# Altium footprint library ISS_PCB.PcbLib: 46 footprints (part 2 of 3)
Each footprint in its own frame and in the unit in brackets; x right, y up, seen from the top. Pads: shape width x height; smd on the part's side, far side on the other; paste and mask are expansions set on the pad; w line width, h text height; cw(c..) or ccw(c..) is an arc to the next point about the centre after c.
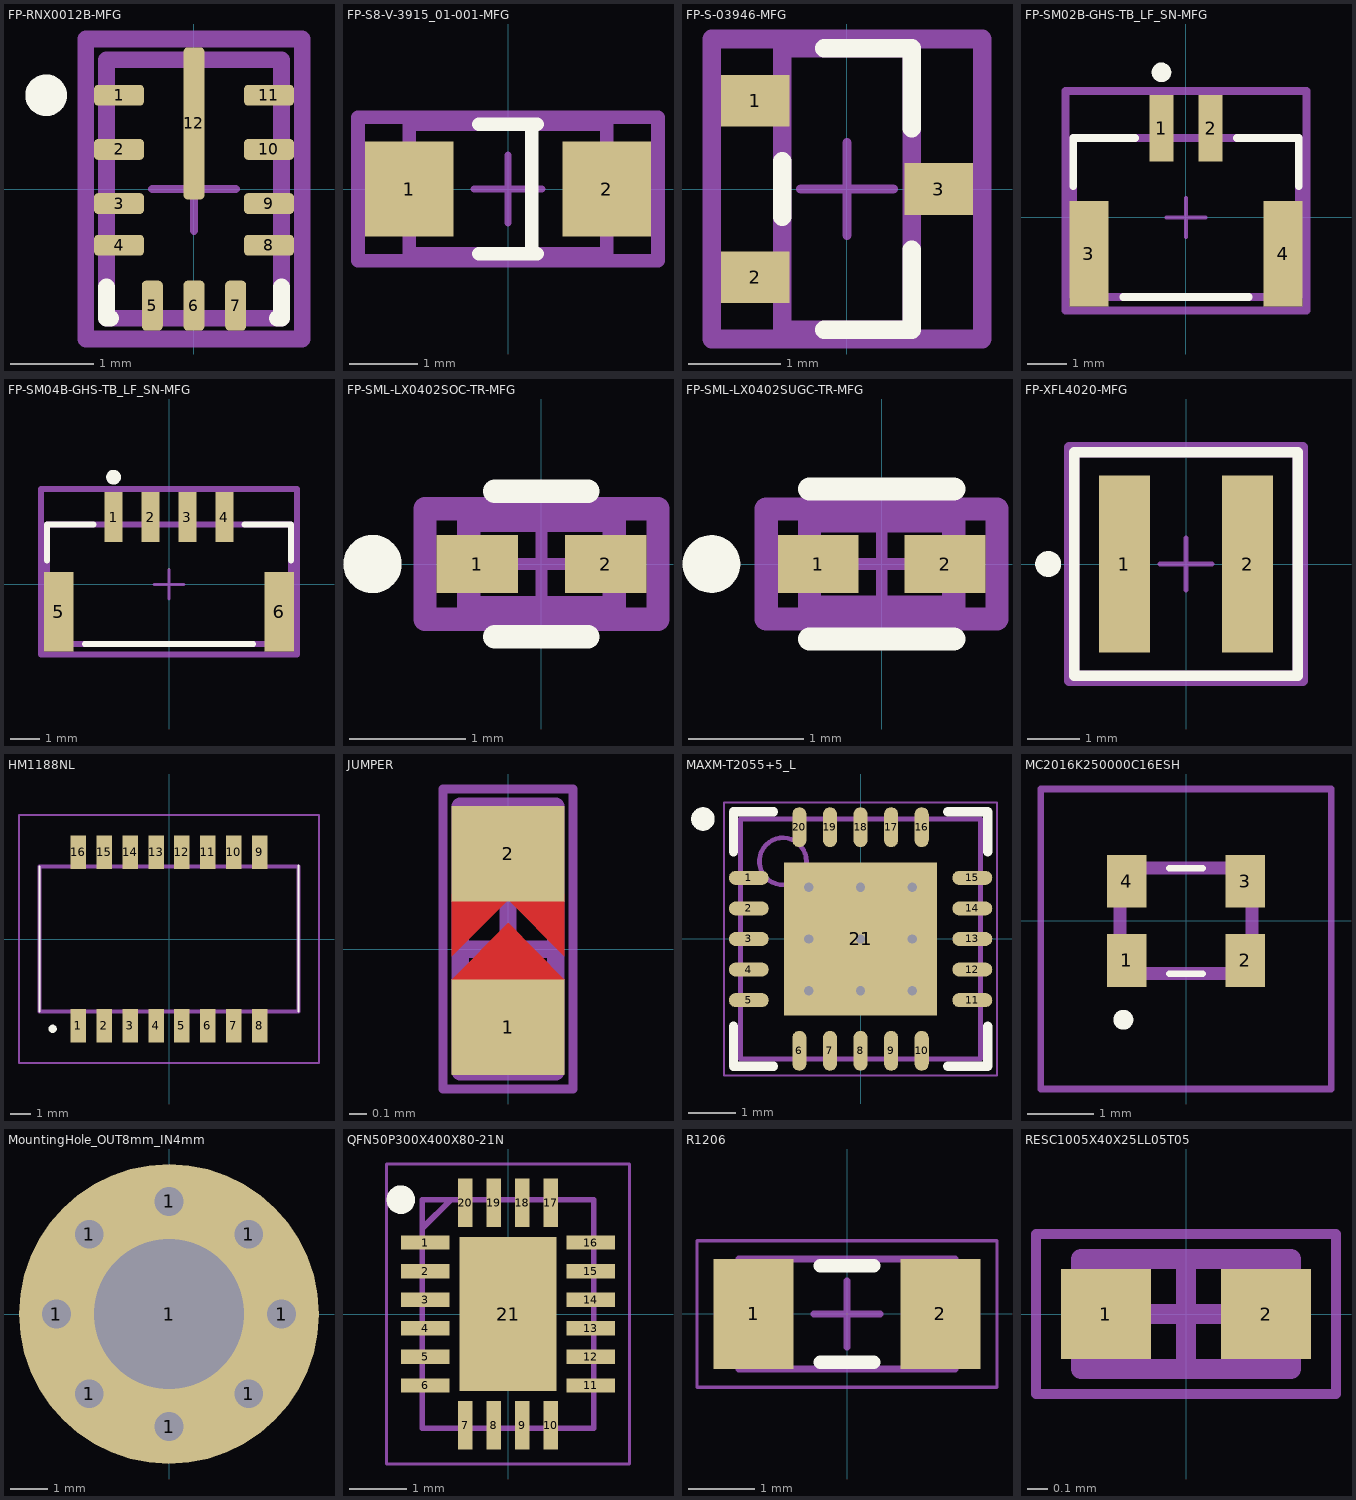
[diagram p1: the footprints below, top view; thin cyan lines are the x and y axes]

## FP-RNX0012B-MFG [mm]
pads (12):
  rrect40% 0.6x0.25 smd paste+0 mask+0: 1(-0.9,1.125) 2(-0.9,0.475) 3(-0.9,-0.175) 4(-0.9,-0.675) 8(0.9,-0.675) 9(0.9,-0.175) 10(0.9,0.475) 11(0.9,1.125)
  rrect40% 0.25x0.6 smd paste+0 mask+0: 5(-0.5,-1.4) 6(0,-1.4) 7(0.5,-1.4)
  rrect40% 0.25x1.825 smd paste-1000 mask+0: 12(0,0.788)
Top Overlay:
  circle w0.25: c-1.775,1.125 r0.125
  lines w0.2: -1.05,-1.175 -1.05,-1.55 -1,-1.55 ; 1,-1.55 1.05,-1.55 1.05,-1.175
Top Paste:
  region: 0.125,1.65 0.125,0.938 0.125,0.928 0.117,0.91 0.103,0.896 0.085,0.888 0.075,0.888 -0.075,0.888 -0.085,0.888 -0.103,0.896 -0.117,0.91 -0.125,0.928 -0.125,0.938 -0.125,1.65 -0.125,1.66 -0.117,1.678 -0.103,1.692 -0.085,1.7 -0.075,1.7 0.075,1.7 0.085,1.7 0.103,1.692 0.117,1.678 0.125,1.66
  region: 0.125,0.638 0.125,-0.074 0.125,-0.084 0.117,-0.102 0.103,-0.116 0.085,-0.124 0.075,-0.124 -0.075,-0.124 -0.085,-0.124 -0.103,-0.116 -0.117,-0.102 -0.125,-0.084 -0.125,-0.074 -0.125,0.638 -0.125,0.648 -0.117,0.666 -0.103,0.68 -0.085,0.688 -0.075,0.688 0.075,0.688 0.085,0.688 0.103,0.68 0.117,0.666 0.125,0.648
Top Courtyard:
  lines w0.2: -1.3,-1.8 1.3,-1.8 1.3,1.8 -1.3,1.8 -1.3,-1.8
Top Assembly:
  lines w0.2: -1.3,-1.8 1.3,-1.8 1.3,1.8 -1.3,1.8 -1.3,-1.8
  text ".Designator" at 0,0.188 h1
Top 3D Body:
  lines w0.2: -1.05,-1.55 1.05,-1.55 1.05,1.55 -1.05,1.55 -1.05,-1.55
Top Component Center:
  lines w0.1: -0.5,0 0.5,0 ; 0,-0.5 0,0.5
3D body "IC_Texas_Instruments_LMR33620CQ3RNXTQ1_eec.STEP": height 0.25, standoff 0, extent -1.3,-1.8 1.3,1.8

## FP-S8-V-3915_01-001-MFG [mm]
pads (2):
  rect 1.3x1.4 smd paste+0 mask+0: 1(-1.45,0) 2(1.45,0)
Top Overlay:
  lines w0.2: -0.425,-0.95 0.425,-0.95 ; -0.425,0.95 0.425,0.95 ; 0.35,-0.87 0.35,0.87
Top Courtyard:
  lines w0.2: -2.2,-1.05 2.2,-1.05 2.2,1.05 -2.2,1.05 -2.2,-1.05
Top Assembly:
  lines w0.2: -2.2,-1.05 2.2,-1.05 2.2,1.05 -2.2,1.05 -2.2,-1.05
  text ".Designator" at 0,-0.001 h1
Top 3D Body:
  lines w0.2: -1.45,-0.95 1.45,-0.95 1.45,0.95 -1.45,0.95 -1.45,-0.95
Top Component Center:
  lines w0.1: -0.5,0 0.5,0 ; 0,-0.5 0,0.5
3D body "Diode_Vishay_SS2FH6HM3-H_eec.STEP": height 0.25, standoff 0, extent -2.2,-1.05 2.2,1.05

## FP-S-03946-MFG [mil]
pads (3):
  rect 29x22 smd paste+0 mask+0: 1(-39,37.5) 2(-39,-37.5) 3(39,0)
Top Overlay:
  lines w7.87: -27.56,-11.74 -27.56,11.74 ; -9.74,-59.84 27.56,-59.84 27.56,-25.76 ; -9.74,59.84 27.56,59.84 27.56,25.76
Top Courtyard:
  lines w7.87: -57.44,-63.78 57.44,-63.78 57.44,63.78 -57.44,63.78 -57.44,-63.78
Top Assembly:
  lines w7.87: -57.44,-63.78 57.44,-63.78 57.44,63.78 -57.44,63.78 -57.44,-63.78
  text ".Designator" at 0,-0.02 h39.37
Top 3D Body:
  lines w7.87: -27.56,-59.84 27.56,-59.84 27.56,59.84 -27.56,59.84 -27.56,-59.84
Top Component Center:
  lines w3.94: -19.69,0 19.68,0 ; 0,-19.68 0,19.69
3D body "Trans_Vishay_SI2318DS-T1-E3_eec.STEP": height 10, standoff 0, extent -57.44,-63.78 57.44,63.78

## FP-SM02B-GHS-TB_LF_SN-MFG [mm]
pads (4):
  rect 0.6x1.7 smd paste+0 mask+0: 1(-0.625,2.275) 2(0.625,2.275)
  rect 1x2.7 smd paste+0 mask+0: 3(-2.475,-0.925) 4(2.475,-0.925)
Top Overlay:
  circle w0.25: c-0.625,3.7 r0.125
  lines w0.2: -2.875,0.8 -2.875,2.025 -1.3,2.025 ; -1.6,-2.025 1.6,-2.025 ; 1.3,2.025 2.875,2.025 2.875,0.8
Top Courtyard:
  lines w0.2: -3.075,-2.375 3.075,-2.375 3.075,3.225 -3.075,3.225 -3.075,-2.375
Top Assembly:
  lines w0.2: -3.075,-2.375 3.075,-2.375 3.075,3.225 -3.075,3.225 -3.075,-2.375
  text ".Designator" at 0,0.613 h1
Top 3D Body:
  lines w0.2: -2.875,-2.025 2.875,-2.025 2.875,2.025 -2.875,2.025 -2.875,-2.025
Top Component Center:
  lines w0.1: -0.5,0 0.5,0 ; 0,-0.5 0,0.5
3D body "Conn_JST_SM02B-GHS-TB_LF_SN_eec.STEP": height 0.25, standoff 0, extent -3.075,-2.375 3.075,3.225

## FP-SM04B-GHS-TB_LF_SN-MFG [mm]
pads (6):
  rect 0.6x1.7 smd paste+0 mask+0: 1(-1.875,2.275) 2(-0.625,2.275) 3(0.625,2.275) 4(1.875,2.275)
  rect 1x2.7 smd paste+0 mask+0: 5(-3.725,-0.925) 6(3.725,-0.925)
Top Overlay:
  circle w0.25: c-1.875,3.625 r0.125
  lines w0.2: -4.125,0.8 -4.125,2.025 -2.55,2.025 ; -2.85,-2.025 2.85,-2.025 ; 2.55,2.025 4.125,2.025 4.125,0.8
Top Courtyard:
  lines w0.2: -4.325,-2.375 4.325,-2.375 4.325,3.225 -4.325,3.225 -4.325,-2.375
Top Assembly:
  lines w0.2: -4.325,-2.375 4.325,-2.375 4.325,3.225 -4.325,3.225 -4.325,-2.375
  text ".Designator" at 0,0.613 h1
Top 3D Body:
  lines w0.2: -4.125,-2.025 4.125,-2.025 4.125,2.025 -4.125,2.025 -4.125,-2.025
Top Component Center:
  lines w0.1: -0.5,0 0.5,0 ; 0,-0.5 0,0.5
3D body "Conn_JST_SM04B-GHS-TB_LF_SN_eec.STEP": height 0.25, standoff 0, extent -4.325,-2.375 4.325,3.225

## FP-SML-LX0402SOC-TR-MFG [mm]
pads (2):
  rect 0.7x0.5 smd paste+0 mask+0: 1(-0.55,0) 2(0.55,0)
Top Overlay:
  circle w0.25: c-1.45,0 r0.125
  lines w0.2: -0.4,-0.625 0.4,-0.625 ; -0.4,0.625 0.4,0.625
Top Courtyard:
  lines w0.2: -1,-0.475 1,-0.475 1,0.475 -1,0.475 -1,-0.475
Top Assembly:
  lines w0.2: -1,-0.475 1,-0.475 1,0.475 -1,0.475 -1,-0.475
  text ".Designator" at 0,-0.001 h1
Top 3D Body:
  lines w0.2: -0.625,-0.375 0.625,-0.375 0.625,0.375 -0.625,0.375 -0.625,-0.375
Top Component Center:
  lines w0.1: -0.5,0 0.5,0 ; 0,-0.5 0,0.5
3D body "Diode_Lumex_SML-LX0402SOC-TR_eec.STEP": height 0.25, standoff 0, extent -1,-0.475 1,0.475

## FP-SML-LX0402SUGC-TR-MFG [mm]
pads (2):
  rect 0.7x0.5 smd paste+0 mask+0: 1(-0.55,0) 2(0.55,0)
Top Overlay:
  circle w0.25: c-1.475,0 r0.125
  lines w0.2: -0.625,-0.65 0.625,-0.65 ; -0.625,0.65 0.625,0.65
Top Courtyard:
  lines w0.2: -1,-0.475 1,-0.475 1,0.475 -1,0.475 -1,-0.475
Top Assembly:
  lines w0.2: -1,-0.475 1,-0.475 1,0.475 -1,0.475 -1,-0.475
  text ".Designator" at 0,-0.001 h1
Top 3D Body:
  lines w0.2: -0.625,-0.375 0.625,-0.375 0.625,0.375 -0.625,0.375 -0.625,-0.375
Top Component Center:
  lines w0.1: -0.5,0 0.5,0 ; 0,-0.5 0,0.5
3D body "Diode_Lumex_SML-LX0402SUGC-TR_eec.STEP": height 0.25, standoff 0, extent -1,-0.475 1,0.475

## FP-XFL4020-MFG [mm]
pads (2):
  rect 0.98x3.4 smd paste+0 mask+0: 1(-1.185,0) 2(1.185,0)
Top Overlay:
  circle w0.25: c-2.65,0 r0.125
  lines w0.2: -2.15,-2.15 -2.15,2.15 2.15,2.15 2.15,-2.15 -2.15,-2.15
Top Courtyard:
  lines w0.2: -2.25,-2.25 -2.25,2.25 2.25,2.25 2.25,-2.25 -2.25,-2.25
Top Assembly:
  lines w0.2: -2.25,-2.25 -2.25,2.25 2.25,2.25 2.25,-2.25 -2.25,-2.25
  text ".Designator" at 0,0.188 h1
Top 3D Body:
  lines w0.2: -2.15,-2.15 -2.15,2.15 2.15,2.15 2.15,-2.15 -2.15,-2.15
Top Component Center:
  lines w0.1: -0.5,0 0.5,0 ; 0,-0.5 0,0.5
3D body "Ind_Coilcraft_XFL4020-222MEC_eec.STEP": height 0.25, standoff 0, extent -2.25,-2.25 2.25,2.25

## HM1188NL [mil]
pads (16):
  rect 30x65 smd: 1(-175,-167.52) 2(-125,-167.52) 3(-75,-167.52) 4(-25,-167.52) 5(25,-167.52) 6(75,-167.52) 7(125,-167.52) 8(175,-167.52) 9(175,167.52) 10(125,167.52) 11(75,167.52) 12(25,167.52) 13(-25,167.52) 14(-75,167.52) 15(-125,167.52) 16(-175,167.52)
Top Overlay:
  lines w3.94: -250,-140 -250,140 ; 250,-140 250,141.73
  lines w7.87: -228.35,-173.23 cw(c-224.41,-173.23) -220.47,-173.23 cw(c-224.41,-173.23) -228.35,-173.23
Top 3D Body:
  lines w7.87: -250,-140 -250,140 250,140 250,-140 -250,-140
Mechanical 15:
  lines w3.94: -289.37,-239.37 -289.37,239.37 289.37,239.37 289.37,-239.37 -289.37,-239.37
3D body "HM1188NL.stp": height 238.94, standoff 0, extent -250,-197.02 250,197.02

## JUMPER [mm]
pads (2):
  rect 0.65x0.55 smd paste-2.54 mask-2.54: 1(0,-0.45) 2(0,0.55)
Top Layer:
  region: -0.325,-0.041 0,0.284 0.325,-0.041 0.325,0.318 -0.325,0.318
  region: -0.325,-0.175 0.003,0.152 0.325,-0.175
Top Solder:
  rectangle: -0.325,-0.728 0.325,0.822
Top 3D Body:
  lines w0.1: -0.275,-0.706 0.275,-0.706 0.275,0.823 -0.275,0.823 -0.275,-0.706
Mechanical 15:
  lines w0.05: -0.375,-0.806 0.375,-0.806 0.375,0.923 -0.375,0.923 -0.375,-0.806
  lines w0.1: -0.25,0 0.25,0 ; 0,-0.25 0,0.25

## MAXM-T2055+5_L [mm]
pads (21):
  oval 0.85x0.3 smd: 1(-2.375,1.3) 2(-2.375,0.65) 3(-2.375,0) 4(-2.375,-0.65) 5(-2.375,-1.3) 11(2.375,-1.3) 12(2.375,-0.65) 13(2.375,0) 14(2.375,0.65) 15(2.375,1.3)
  oval 0.3x0.85 smd: 6(-1.3,-2.375) 7(-0.65,-2.375) 8(0,-2.375) 9(0.65,-2.375) 10(1.3,-2.375) 16(1.3,2.375) 17(0.65,2.375) 18(0,2.375) 19(-0.65,2.375) 20(-1.3,2.375)
  rect 3.25x3.25 smd: 21(0,0)
via -1.1,1.1 diameter 0.5 hole 0.2
via 0,1.1 diameter 0.5 hole 0.2
via 1.1,1.1 diameter 0.5 hole 0.2
via -1.1,0 diameter 0.5 hole 0.2
via 0,0 diameter 0.5 hole 0.2
via 1.1,0 diameter 0.5 hole 0.2
via -1.1,-1.1 diameter 0.5 hole 0.2
via 0,-1.1 diameter 0.5 hole 0.2
via 1.1,-1.1 diameter 0.5 hole 0.2
Top Overlay:
  circle w0.25: c-3.35,2.55 r0.125
  lines w0.2: -2.7,-1.85 -2.7,-2.7 -1.85,-2.7 ; -2.7,1.85 -2.7,2.7 -1.85,2.7 ; 1.85,-2.7 2.7,-2.7 2.7,-1.85 ; 1.85,2.7 2.7,2.7 2.7,1.85
Top 3D Body:
  circle w0.1: c-1.65,1.65 r0.5
  lines w0.1: -2.55,-2.55 -2.55,2.55 2.55,2.55 2.55,-2.55 -2.55,-2.55
Mechanical 15:
  lines w0.05: -2.9,-2.9 -2.9,2.9 2.9,2.9 2.9,-2.9 -2.9,-2.9
  lines w0.1: -0.5,0 0.5,0 ; 0,-0.5 0,0.5
3D body: height 0.8, standoff 0, extent -2.55,-2.55 2.55,2.55

## MC2016K250000C16ESH [mm]
pads (4):
  rect 0.6x0.8 smd: 1(-0.9,-0.6) 2(0.9,-0.6) 3(0.9,0.6) 4(-0.9,0.6)
Top Overlay:
  lines w0.1: -0.25,-0.8 0.25,-0.8 -0.25,-0.8 ; -0.25,0.8 0.25,0.8 -0.25,0.8
  lines w0.2: -1,-1.5 ccw(c-0.95,-1.5) -0.9,-1.5 ; -1,-1.5 cw(c-0.95,-1.5) -0.9,-1.5 ; -1,-1.5 ccw(c-0.95,-1.5) -0.9,-1.5
Top 3D Body:
  lines w0.2: -1,-0.8 -1,0.8 1,0.8 1,-0.8 -1,-0.8
Mechanical 15:
  lines w0.1: -2.2,-2.55 -2.2,2 2.2,2 2.2,-2.55 -2.2,-2.55
3D body "MC2016K25.0000C16ESH.stp": height 0.9, standoff 0, extent -1.14,-0.94 1.14,0.94

## MountingHole_OUT8mm_IN4mm [mil]
pads (9):
  round 60 hole 30: 1(-118.11,0) 1(-83.52,-83.52) 1(-83.52,83.52) 1(0,-118.11) 1(0,118.11) 1(83.52,-83.52) 1(83.52,83.52) 1(118.11,0)
  round 314.96 hole 157.48: 1(0,0)

## QFN50P300X400X80-21N [mm]
pads (21):
  rect 0.85x0.25 smd: 1(-1.45,1.25) 2(-1.45,0.75) 3(-1.45,0.25) 4(-1.45,-0.25) 5(-1.45,-0.75) 6(-1.45,-1.25) 11(1.45,-1.25) 12(1.45,-0.75) 13(1.45,-0.25) 14(1.45,0.25) 15(1.45,0.75) 16(1.45,1.25)
  rect 0.25x0.85 smd: 7(-0.75,-1.95) 8(-0.25,-1.95) 9(0.25,-1.95) 10(0.75,-1.95) 17(0.75,1.95) 18(0.25,1.95) 19(-0.25,1.95) 20(-0.75,1.95)
  rect 1.7x2.7 smd: 21(0,0)
Top Overlay:
  circle w0.25: c-1.875,2 r0.125
Top 3D Body:
  lines w0.1: -1.5,1.5 -1,2 ; -1.5,-2 -1.5,2 1.5,2 1.5,-2 -1.5,-2
Mechanical 15:
  lines w0.05: -2.125,-2.625 -2.125,2.625 2.125,2.625 2.125,-2.625 -2.125,-2.625
3D body "TPS25940AQRVCRQ1.stp": height 0.8, standoff 0, extent -1.5,-2 1.5,2

## R1206 [mm]
pads (2):
  rect 1.2x1.65 smd: 1(-1.4,0) 2(1.4,0)
Top Overlay:
  lines w0.2: -0.4,-0.725 0.4,-0.725 ; -0.4,0.725 0.4,0.725
Top 3D Body:
  lines w0.1: -1.625,-0.825 -1.625,0.825 1.625,0.825 1.625,-0.825 -1.625,-0.825
Mechanical 15:
  lines w0.05: -2.25,-1.1 -2.25,1.1 2.25,1.1 2.25,-1.1 -2.25,-1.1
  lines w0.1: -0.5,0 0.5,0 ; 0,-0.5 0,0.5
3D body "RESC3115X07N.step": height 0.7, standoff 0, extent -1.625,-0.825 1.625,0.825

## RESC1005X40X25LL05T05 [mm]
pads (2):
  rect 0.45x0.45 smd: 1(-0.4,0) 2(0.4,0)
Top 3D Body:
  lines w0.1: -0.525,-0.275 -0.525,0.275 0.525,0.275 0.525,-0.275 -0.525,-0.275
Mechanical 15:
  lines w0.05: -0.75,-0.4 -0.75,0.4 0.75,0.4 0.75,-0.4 -0.75,-0.4
  lines w0.1: -0.275,0 0.275,0 ; 0,-0.275 0,0.275
3D body: height 0.4, standoff 0, extent -0.275,-0.275 0.275,0.275
3D body: height 0.4, standoff 0, extent -0.525,-0.275 -0.275,0.275
3D body: height 0.4, standoff 0, extent 0.275,-0.275 0.525,0.275